# EAGLE library part LM386 (library pedals-integrated circuits)
LM386 - Low Voltage Audio Power Amplifier
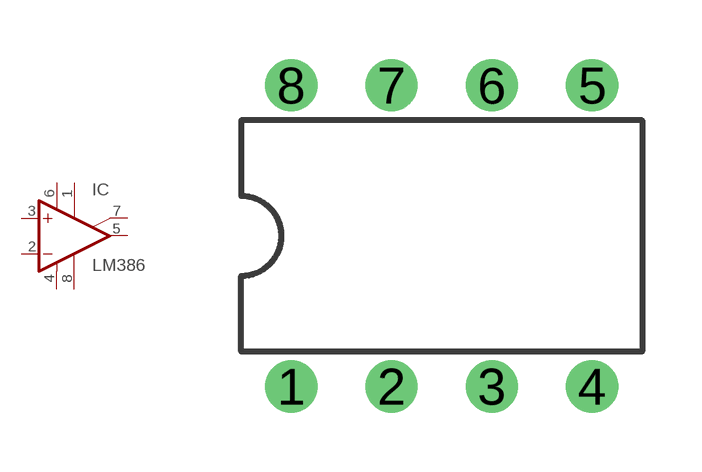
[diagram p19: symbol with the pads of DIL0; footprint DIL0]

Designator prefix IC

## LM386  [DIL0]
1  GAIN1  pas
2  -IN  in
3  +IN  in
4  V-  pwr
5  OUT  out
6  V+  pwr
7  BYPASS  pas
8  GAIN2  pas

## Footprint DIL0 (pad centres in mm)
Dual In Line Package
drill 0.813 pad 1.27: 1 -3.81,-3.81; 2 -1.27,-3.81; 3 1.27,-3.81; 4 3.81,-3.81; 5 3.81,3.81; 6 1.27,3.81; 7 -1.27,3.81; 8 -3.81,3.81